# Altium integrated library N-Channel FET.IntLib: 448 symbols (part 2 of 8)
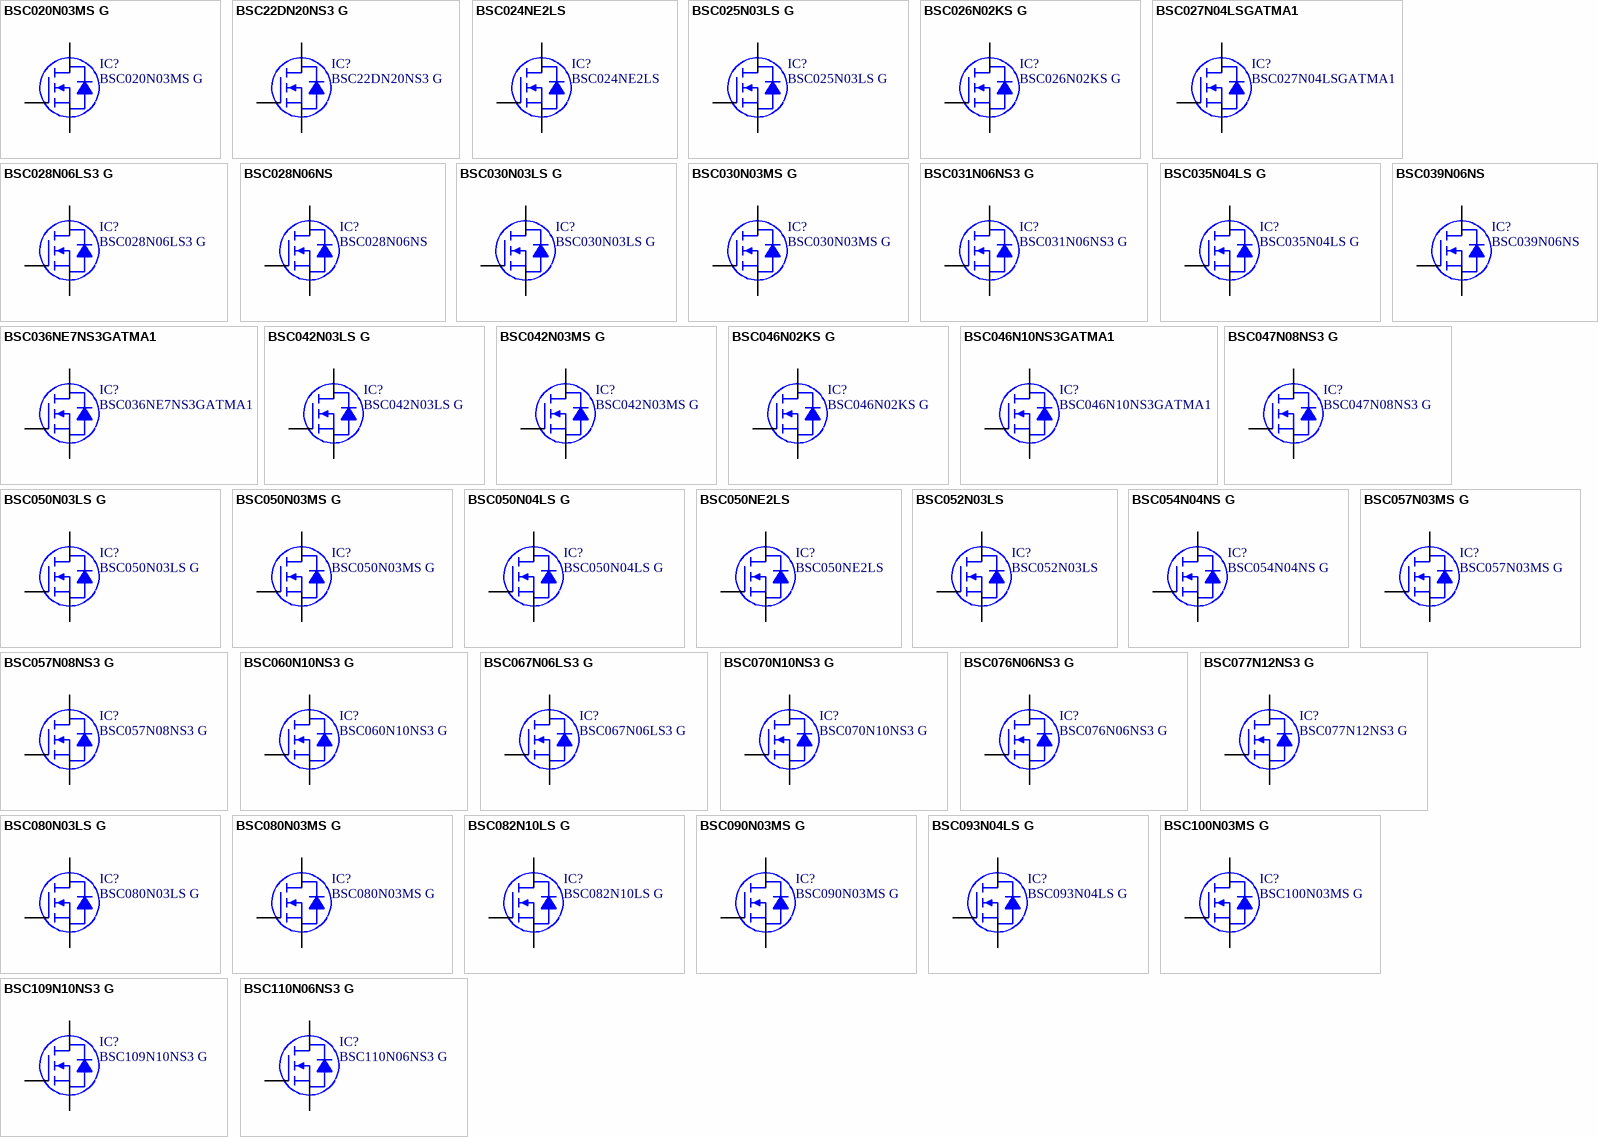
[diagram p12: symbols BSC020N03MS G to BSC110N06NS3 G]

## BSC042N03LS G
designator IC?
MOSFET N-CH 30V 93A TDSON-8; Manufacturer: Infineon Technologies; Rds On (Max) at Id, Vgs: 4.2 mOhm @ 30A, 10V; Vgs(th) (Max) at Id: 2.2V @ 250uA; Gate Charge (Qg): 42nC @ 10V; Input Capacitance (Ciss) at Vds: 3500pF @ 15V; Power - Max: 57W; Current Continuous Drain: 20A (Ta), 93A (Tc); Part Number: BSC042N03LS G; PartId: 8004; Supplier 1: Digi-Key; Supplier Part Number 1: BSC042N03LSGINTR-ND; ComponentLink1Description: Datasheet; ComponentLink1URL: http://www.infineon.com/dgdl?fileId=db3a304319c6f18c0119e17c202f5ff7; ComponentLink2Description: Digi-Key Listing; ComponentLink2URL: http://www.digikey.com/product-detail/en/BSC042N03LS%20G/BSC042N03LSGINTR-ND/1785566; Price: 0.2835; Type: MOSFET N-Channel, Metal Oxide; Device Package: 8-PowerTDFN; Drain to Source Voltage (Vdss): 30V; Features: Logic Level Gate
footprint INFINEON PG-TDSON-8 6.15x5.32mm
pins: 1 S, 2 S, 3 S, 4 G, 5 D, 6 D, 7 D, 8 D

## BSC042N03MS G
designator IC?
MOSFET N-CH 30V 93A TDSON-8; Manufacturer: Infineon Technologies; Rds On (Max) at Id, Vgs: 4.2 mOhm @ 30A, 10V; Vgs(th) (Max) at Id: 2V @ 250uA; Gate Charge (Qg): 55nC @ 10V; Input Capacitance (Ciss) at Vds: 4300pF @ 15V; Power - Max: 57W; Current Continuous Drain: 17A (Ta), 93A (Tc); Part Number: BSC042N03MS G; PartId: 8007; Supplier 1: Digi-Key; Supplier Part Number 1: BSC042N03MSGINTR-ND; ComponentLink1Description: Datasheet; ComponentLink1URL: http://www.infineon.com/cms/en/services/download.html?filename=%2Fdgdl%2FBSC042N03MS_rev1.11.pdf%3FfolderId%3Ddb3a304313d846880113d91d60c500c4%26fileId%3Ddb3a304313d846880113de62ba090366&location=.en; ComponentLink2Description: Digi-Key Listing; ComponentLink2URL: http://www.digikey.com/product-detail/en/BSC042N03MS%20G/BSC042N03MSGINTR-ND/1785567; Price: 0.2835; Type: MOSFET N-Channel, Metal Oxide; Device Package: 8-PowerTDFN; Drain to Source Voltage (Vdss): 30V; Features: Standard
footprint INFINEON PG-TDSON-8 6.15x5.32mm
pins: 1 S, 2 S, 3 S, 4 G, 5 D, 6 D, 7 D, 8 D

## BSC046N02KS G
designator IC?
MOSFET N-CH 20V 80A TDSON-8; Manufacturer: Infineon Technologies; Rds On (Max) at Id, Vgs: 4.6 mOhm @ 50A, 4.5V; Vgs(th) (Max) at Id: 1.2V @ 110uA; Gate Charge (Qg): 27.6nC @ 4.5V; Input Capacitance (Ciss) at Vds: 4100pF @ 10V; Power - Max: 48W; Current Continuous Drain: 19A (Ta), 80A (Tc); Part Number: BSC046N02KS G; PartId: 8016; Supplier 1: Digi-Key; Supplier Part Number 1: BSC046N02KS GTR-ND; ComponentLink1Description: Datasheet; ComponentLink1URL: http://www.infineon.com/dgdl/BSC046N02KS+G+Rev1.05.pdf?folderId=db3a3043163797a6011637c252b10018&fileId=db3a3043163797a6011637c34414001c; ComponentLink2Description: Digi-Key Listing; ComponentLink2URL: http://www.digikey.com/product-detail/en/BSC046N02KS%20G/BSC046N02KS%20GTR-ND/2080624; Price: 0.4464; Type: MOSFET N-Channel, Metal Oxide; Device Package: 8-PowerTDFN; Drain to Source Voltage (Vdss): 20V; Features: Logic Level Gate, 2.5V Drive
footprint INFINEON PG-TDSON-8 6.15x5.32mm
pins: 1 S, 2 S, 3 S, 4 G, 5 D, 6 D, 7 D, 8 D

## BSC046N10NS3GATMA1
designator IC?
MOSFET N-CH 100V 100A TDSON-8; Manufacturer: Infineon Technologies; Rds On (Max) at Id, Vgs: 4.6 mOhm @ 50A, 10V; Vgs(th) (Max) at Id: 3.5V @ 120uA; Gate Charge (Qg): 63nC @ 10V; Input Capacitance (Ciss) at Vds: 4500pF @ 50V; Power - Max: 156W; Current Continuous Drain: 17A (Ta), 100A (Tc); Part Number: BSC046N10NS3GATMA1; PartId: 15707; Supplier 1: Digi-Key; Supplier Part Number 1: BSC046N10NS3GATMA1TR-ND; ComponentLink1Description: Datasheet; ComponentLink1URL: http://www.infineon.com/dgdl/BSC046N10NS3+Rev2.0.pdf?folderId=db3a304313b8b5a60113cee8763b02d7&fileId=db3a304332fc1ee7013316f966a4713c; ComponentLink2Description: Digi-Key Listing; ComponentLink2URL: https://www.digikey.com/product-detail/en/infineon-technologies/BSC046N10NS3GATMA1/BSC046N10NS3GATMA1TR-ND/4318677; Price: 1.4836; Type: MOSFET N-Channel, Metal Oxide; Device Package: 8-PowerTDFN; Drain to Source Voltage (Vdss): 100V; Features: Standard
footprint INFINEON PG-TDSON-8 6.15x5.32mm
pins: 1 S, 2 S, 3 S, 4 G, 5 D, 6 D, 7 D, 8 D

## BSC047N08NS3 G
designator IC?
MOSFET N-CH 80V 100A TDSON-8; Manufacturer: Infineon Technologies; Rds On (Max) at Id, Vgs: 4.7 mOhm @ 50A, 10V; Vgs(th) (Max) at Id: 3.5V @ 90uA; Gate Charge (Qg): 69nC @ 10V; Input Capacitance (Ciss) at Vds: 4800pF @ 40V; Power - Max: 125W; Current Continuous Drain: 18A (Ta), 100A (Tc); Part Number: BSC047N08NS3 G; PartId: 8011; Supplier 1: Digi-Key; Supplier Part Number 1: BSC047N08NS3 GTR-ND; ComponentLink1Description: Datasheet; ComponentLink1URL: http://www.infineon.com/dgdl/BSC047N08NS3G_rev2.4.pdf?folderId=db3a304313b8b5a60113cee7c66a02d6&fileId=db3a30431add1d95011ae7e8dacf5611; ComponentLink2Description: Digi-Key Listing; ComponentLink2URL: http://www.digikey.com/product-detail/en/BSC047N08NS3%20G/BSC047N08NS3%20GTR-ND/2080625; Price: 1.006; Type: MOSFET N-Channel, Metal Oxide; Device Package: 8-PowerTDFN; Drain to Source Voltage (Vdss): 80V; Features: Standard
footprint INFINEON PG-TDSON-8 6.15x5.32mm
pins: 1 S, 2 S, 3 S, 4 G, 5 D, 6 D, 7 D, 8 D

## BSC050N03LS G
designator IC?
MOSFET N-CH 30V 80A TDSON-8; Manufacturer: Infineon Technologies; Rds On (Max) at Id, Vgs: 5 mOhm @ 30A, 10V; Vgs(th) (Max) at Id: 2.2V @ 250uA; Gate Charge (Qg): 35nC @ 10V; Input Capacitance (Ciss) at Vds: 2800pF @ 15V; Power - Max: 50W; Current Continuous Drain: 18A (Ta), 80A (Tc); Part Number: BSC050N03LS G; PartId: 8022; Supplier 1: Digi-Key; Supplier Part Number 1: BSC050N03LSGINTR-ND; ComponentLink1Description: Datasheet; ComponentLink1URL: http://www.infineon.com/cms/en/services/download.html?filename=%2Fdgdl%2FBSC050N03LS_rev1.2.pdf%3FfolderId%3Ddb3a304412b407950112b408e8c90004%26fileId%3Ddb3a304412b407950112b4276b953c2b&location=.en.; ComponentLink2Description: Digi-Key Listing; ComponentLink2URL: http://www.digikey.com/product-detail/en/BSC050N03LS%20G/BSC050N03LSGINTR-ND/1785568; Price: 0.2497; Type: MOSFET N-Channel, Metal Oxide; Device Package: 8-PowerTDFN; Drain to Source Voltage (Vdss): 30V; Features: Logic Level Gate
footprint INFINEON PG-TDSON-8 6.15x5.32mm
pins: 1 S, 2 S, 3 S, 4 G, 5 D, 6 D, 7 D, 8 D

## BSC050N03MS G
designator IC?
MOSFET N-CH 30V 80A TDSON-8; Manufacturer: Infineon Technologies; Rds On (Max) at Id, Vgs: 5 mOhm @ 30A, 10V; Vgs(th) (Max) at Id: 2V @ 250uA; Gate Charge (Qg): 46nC @ 10V; Input Capacitance (Ciss) at Vds: 3600pF @ 15V; Power - Max: 50W; Current Continuous Drain: 16A (Ta), 80A (Tc); Part Number: BSC050N03MS G; PartId: 7983; Supplier 1: Digi-Key; Supplier Part Number 1: BSC050N03MSGINTR-ND; ComponentLink1Description: Datasheet; ComponentLink1URL: http://www.infineon.com/cms/en/services/download.html?filename=%2Fdgdl%2FBSC050N03MS_rev1.11.pdf%3FfolderId%3Ddb3a304313d846880113d91d60c500c4%26fileId%3Ddb3a304313d846880113de6677ab0373&location=.en; ComponentLink2Description: Digi-Key Listing; ComponentLink2URL: http://www.digikey.com/product-detail/en/BSC050N03MS%20G/BSC050N03MSGINTR-ND/1785569; Price: 0.2497; Type: MOSFET N-Channel, Metal Oxide; Device Package: 8-PowerTDFN; Drain to Source Voltage (Vdss): 30V; Features: Standard
footprint INFINEON PG-TDSON-8 6.15x5.32mm
pins: 1 S, 2 S, 3 S, 4 G, 5 D, 6 D, 7 D, 8 D

## BSC050N04LS G
designator IC?
MOSFET N-CH 40V 85A TDSON-8; Manufacturer: Infineon Technologies; Rds On (Max) at Id, Vgs: 5 mOhm @ 50A, 10V; Vgs(th) (Max) at Id: 2V @ 27uA; Gate Charge (Qg): 47nC @ 10V; Input Capacitance (Ciss) at Vds: 3700pF @ 20V; Power - Max: 57W; Current Continuous Drain: 18A (Ta), 85A (Tc); Part Number: BSC050N04LS G; PartId: 8033; Supplier 1: Digi-Key; Supplier Part Number 1: BSC050N04LS GTR-ND; ComponentLink1Description: Datasheet; ComponentLink1URL: http://www.infineon.com/dgdl/BSC050N04LSG_rev1.02.pdf?folderId=db3a3043156fd5730115c7d50620107c&fileId=db3a30431689f4420116c4440ee3081c; ComponentLink2Description: Digi-Key Listing; ComponentLink2URL: http://www.digikey.com/product-detail/en/BSC050N04LS%20G/BSC050N04LS%20GTR-ND/2080626; Price: 0.27; Type: MOSFET N-Channel, Metal Oxide; Device Package: 8-PowerTDFN; Drain to Source Voltage (Vdss): 40V; Features: Logic Level Gate
footprint INFINEON PG-TDSON-8 6.15x5.32mm
pins: 1 S, 2 S, 3 S, 4 G, 5 D, 6 D, 7 D, 8 D

## BSC050NE2LS
designator IC?
MOSFET N-CH 25V 39A TDSON-8; Manufacturer: Infineon Technologies; Rds On (Max) at Id, Vgs: 5 mOhm @ 30A, 10V; Vgs(th) (Max) at Id: 2V @ 250uA; Gate Charge (Qg): 10.4nC @ 10V; Input Capacitance (Ciss) at Vds: 760pF @ 12V; Power - Max: 28W; Current Continuous Drain: 39A (Ta), 58A (Tc); Part Number: BSC050NE2LS; PartId: 7978; Supplier 1: Digi-Key; Supplier Part Number 1: BSC050NE2LSTR-ND; ComponentLink1Description: Datasheet; ComponentLink1URL: http://www.infineon.com/dgdl/BSC050NE2LS_Rev+2.1_.pdf?folderId=db3a304326dfb1300126fb3bec803f1a&fileId=db3a304326dfb1300126fb5ce0cb3f2d; ComponentLink2Description: Digi-Key Listing; ComponentLink2URL: http://www.digikey.com/product-detail/en/BSC050NE2LS/BSC050NE2LSTR-ND/2783446; Price: 0.243; Type: MOSFET N-Channel, Metal Oxide; Device Package: 8-PowerTDFN; Drain to Source Voltage (Vdss): 25V; Features: Standard
footprint INFINEON PG-TDSON-8 6.15x5.32mm
pins: 1 S, 2 S, 3 S, 4 G, 5 D, 6 D, 7 D, 8 D

## BSC052N03LS
designator IC?
MOSFET N-CH 30V 17A TDSON-8; Manufacturer: Infineon Technologies; Rds On (Max) at Id, Vgs: 5.2 mOhm @ 30A, 10V; Vgs(th) (Max) at Id: 2V @ 250uA; Gate Charge (Qg): 12nC @ 10V; Input Capacitance (Ciss) at Vds: 770pF @ 15V; Power - Max: 28W; Current Continuous Drain: 17A (Ta), 57A (Tc); Part Number: BSC052N03LS; PartId: 8020; Supplier 1: Digi-Key; Supplier Part Number 1: BSC052N03LSTR-ND; ComponentLink1Description: Datasheet; ComponentLink1URL: http://www.infineon.com/dgdl/BSC052N03LS_Rev+2.1.pdf?folderId=db3a304313b8b5a60113cee8763b02d7&fileId=db3a30432c64a60d012cbc1084350363; ComponentLink2Description: Digi-Key Listing; ComponentLink2URL: http://www.digikey.com/product-detail/en/BSC052N03LS/BSC052N03LSTR-ND/2783447; Price: 0.2565; Type: MOSFET N-Channel, Metal Oxide; Device Package: 8-PowerTDFN; Drain to Source Voltage (Vdss): 30V; Features: Standard
footprint INFINEON PG-TDSON-8 6.15x5.32mm
pins: 1 S, 2 S, 3 S, 4 G, 5 D, 6 D, 7 D, 8 D

## BSC054N04NS G
designator IC?
MOSFET N-CH 40V 81A TDSON-8; Manufacturer: Infineon Technologies; Rds On (Max) at Id, Vgs: 5.4 mOhm @ 50A, 10V; Vgs(th) (Max) at Id: 4V @ 27uA; Gate Charge (Qg): 34nC @ 10V; Input Capacitance (Ciss) at Vds: 2800pF @ 20V; Power - Max: 57W; Current Continuous Drain: 17A (Ta), 81A (Tc); Part Number: BSC054N04NS G; PartId: 8025; Supplier 1: Digi-Key; Supplier Part Number 1: BSC054N04NS GTR-ND; ComponentLink1Description: Datasheet; ComponentLink1URL: http://www.infineon.com/dgdl/BSC054N04NSG_rev1.04.pdf?folderId=db3a3043156fd5730115c7d50620107c&fileId=db3a30431689f4420116c46167a0083c; ComponentLink2Description: Digi-Key Listing; ComponentLink2URL: http://www.digikey.com/product-detail/en/BSC054N04NS%20G/BSC054N04NS%20GTR-ND/2080627; Price: 0.216; Type: MOSFET N-Channel, Metal Oxide; Device Package: 8-PowerTDFN; Drain to Source Voltage (Vdss): 40V; Features: Standard
footprint INFINEON PG-TDSON-8 6.15x5.32mm
pins: 1 S, 2 S, 3 S, 4 G, 5 D, 6 D, 7 D, 8 D

## BSC057N03MS G
designator IC?
MOSFET N-CH 30V 71A TDSON-8; Manufacturer: Infineon Technologies; Rds On (Max) at Id, Vgs: 5.7 mOhm @ 30A, 10V; Vgs(th) (Max) at Id: 2V @ 250uA; Gate Charge (Qg): 40nC @ 10V; Input Capacitance (Ciss) at Vds: 3100pF @ 15V; Power - Max: 45W; Current Continuous Drain: 15A (Ta), 71A (Tc); Part Number: BSC057N03MS G; PartId: 7990; Supplier 1: Digi-Key; Supplier Part Number 1: BSC057N03MSGINTR-ND; ComponentLink1Description: Datasheet; ComponentLink1URL: http://www.infineon.com/cms/en/services/download.html?filename=%2Fdgdl%2FBSC057N03MS_rev1.11.pdf%3FfolderId%3Ddb3a304313d846880113d91d60c500c4%26fileId%3Ddb3a304313d846880113de68c6ce037a&location=.en; ComponentLink2Description: Digi-Key Listing; ComponentLink2URL: http://www.digikey.com/product-detail/en/BSC057N03MS%20G/BSC057N03MSGINTR-ND/1785571; Price: 0.243; Type: MOSFET N-Channel, Metal Oxide; Device Package: 8-PowerTDFN; Drain to Source Voltage (Vdss): 30V; Features: Standard
footprint INFINEON PG-TDSON-8 6.15x5.32mm
pins: 1 S, 2 S, 3 S, 4 G, 5 D, 6 D, 7 D, 8 D

## BSC057N08NS3 G
designator IC?
MOSFET N-CH 80V 100A TDSON-8; Manufacturer: Infineon Technologies; Rds On (Max) at Id, Vgs: 5.7 mOhm @ 50A, 10V; Vgs(th) (Max) at Id: 3.5V @ 73uA; Gate Charge (Qg): 56nC @ 10V; Input Capacitance (Ciss) at Vds: 3900pF @ 40V; Power - Max: 114W; Current Continuous Drain: 16A (Ta), 100A (Tc); Part Number: BSC057N08NS3 G; PartId: 8002; Supplier 1: Digi-Key; Supplier Part Number 1: BSC057N08NS3 GTR-ND; ComponentLink1Description: Datasheet; ComponentLink1URL: http://www.infineon.com/dgdl/BSC057N08NS3G_rev2.4.pdf?folderId=db3a304313b8b5a60113cee8763b02d7&fileId=db3a30431add1d95011ae803c9345616; ComponentLink2Description: Digi-Key Listing; ComponentLink2URL: http://www.digikey.com/product-detail/en/BSC057N08NS3%20G/BSC057N08NS3%20GTR-ND/2080628; Price: 0.532; Type: MOSFET N-Channel, Metal Oxide; Device Package: 8-PowerTDFN; Drain to Source Voltage (Vdss): 80V; Features: Standard
footprint INFINEON PG-TDSON-8 6.15x5.32mm
pins: 1 S, 2 S, 3 S, 4 G, 5 D, 6 D, 7 D, 8 D

## BSC060N10NS3 G
designator IC?
MOSFET N-CH 100V 90A TDSON-8; Manufacturer: Infineon Technologies; Rds On (Max) at Id, Vgs: 6 mOhm @ 50A, 10V; Vgs(th) (Max) at Id: 3.5V @ 90uA; Gate Charge (Qg): 68nC @ 10V; Input Capacitance (Ciss) at Vds: 4900pF @ 50V; Power - Max: 125W; Current Continuous Drain: 14.9A (Ta), 90A (Tc); Part Number: BSC060N10NS3 G; PartId: 7996; Supplier 1: Digi-Key; Supplier Part Number 1: BSC060N10NS3 GTR-ND; ComponentLink1Description: Datasheet; ComponentLink1URL: http://www.infineon.com/dgdl/BSC060N10NS3+Rev2.4.pdf?folderId=db3a304313b8b5a60113cee8763b02d7&fileId=db3a30431ce5fb52011d1aab7f90133a; ComponentLink2Description: Digi-Key Listing; ComponentLink2URL: http://www.digikey.com/product-detail/en/BSC060N10NS3%20G/BSC060N10NS3%20GTR-ND/2080630; Price: 0.6861; Type: MOSFET N-Channel, Metal Oxide; Device Package: 8-PowerTDFN; Drain to Source Voltage (Vdss): 100V; Features: Standard
footprint INFINEON PG-TDSON-8 6.15x5.32mm
pins: 1 S, 2 S, 3 S, 4 G, 5 D, 6 D, 7 D, 8 D

## BSC067N06LS3 G
designator IC?
MOSFET N-CH 60V 50A TDSON-8; Manufacturer: Infineon Technologies; Rds On (Max) at Id, Vgs: 6.7 mOhm @ 50A, 10V; Vgs(th) (Max) at Id: 2.2V @ 35uA; Gate Charge (Qg): 67nC @ 10V; Input Capacitance (Ciss) at Vds: 5100pF @ 30V; Power - Max: 69W; Current Continuous Drain: 15A (Ta), 50A (Tc); Part Number: BSC067N06LS3 G; PartId: 7997; Supplier 1: Digi-Key; Supplier Part Number 1: BSC067N06LS3 GINTR-ND; ComponentLink1Description: Datasheet; ComponentLink1URL: http://www.infineon.com/dgdl/BSC067N06LS3_rev2.0.pdf?folderId=db3a30431ddc9372011ebafa04517f8b&fileId=db3a30431ddc9372011ebb01e1b37fb6; ComponentLink2Description: Digi-Key Listing; ComponentLink2URL: http://www.digikey.com/product-detail/en/BSC067N06LS3%20G/BSC067N06LS3%20GINTR-ND/2080631; Price: 0.3229; Type: MOSFET N-Channel, Metal Oxide; Device Package: 8-PowerTDFN; Drain to Source Voltage (Vdss): 60V; Features: Logic Level Gate
footprint INFINEON PG-TDSON-8 6.15x5.32mm
pins: 1 S, 2 S, 3 S, 4 G, 5 D, 6 D, 7 D, 8 D

## BSC070N10NS3 G
designator IC?
MOSFET N-CH 100V 90A TDSON-8; Manufacturer: Infineon Technologies; Rds On (Max) at Id, Vgs: 7 mOhm @ 50A, 10V; Vgs(th) (Max) at Id: 3.5V @ 75uA; Gate Charge (Qg): 55nC @ 10V; Input Capacitance (Ciss) at Vds: 4000pF @ 50V; Power - Max: 114W; Current Continuous Drain: 90A (Tc); Part Number: BSC070N10NS3 G; PartId: 8001; Supplier 1: Digi-Key; Supplier Part Number 1: BSC070N10NS3 GTR-ND; ComponentLink1Description: Datasheet; ComponentLink1URL: http://www.infineon.com/dgdl/BSC070N10NS3+Rev2+1.pdf?folderId=db3a304313b8b5a60113cee8763b02d7&fileId=db3a304327b89750012824712c6c6f2f; ComponentLink2Description: Digi-Key Listing; ComponentLink2URL: http://www.digikey.com/product-detail/en/BSC070N10NS3%20G/BSC070N10NS3%20GTR-ND/2783448; Price: 0.5386; Type: MOSFET N-Channel, Metal Oxide; Device Package: 8-PowerTDFN; Drain to Source Voltage (Vdss): 100V; Features: Standard
footprint INFINEON PG-TDSON-8 6.15x5.32mm
pins: 1 S, 2 S, 3 S, 4 G, 5 D, 6 D, 7 D, 8 D

## BSC076N06NS3 G
designator IC?
MOSFET N-CH 60V 50A TDSON-8; Manufacturer: Infineon Technologies; Rds On (Max) at Id, Vgs: 7.6 mOhm @ 50A, 10V; Vgs(th) (Max) at Id: 4V @ 35uA; Gate Charge (Qg): 50nC @ 10V; Input Capacitance (Ciss) at Vds: 4000pF @ 30V; Power - Max: 69W; Current Continuous Drain: 50A (Tc); Part Number: BSC076N06NS3 G; PartId: 7998; Supplier 1: Digi-Key; Supplier Part Number 1: BSC076N06NS3 GTR-ND; ComponentLink1Description: Datasheet; ComponentLink1URL: http://www.infineon.com/dgdl/BSC076N06NS3_Rev2.1.pdf?folderId=db3a30431ddc9372011ebafa04517f8b&fileId=db3a30431ddc9372011ebb04d68c7fc7; ComponentLink2Description: Digi-Key Listing; ComponentLink2URL: http://www.digikey.com/product-detail/en/BSC076N06NS3%20G/BSC076N06NS3%20GTR-ND/2080633; Price: 0.2903; Type: MOSFET N-Channel, Metal Oxide; Device Package: 8-PowerTDFN; Drain to Source Voltage (Vdss): 60V; Features: Standard
footprint INFINEON PG-TDSON-8 6.15x5.32mm
pins: 1 S, 2 S, 3 S, 4 G, 5 D, 6 D, 7 D, 8 D

## BSC077N12NS3 G
designator IC?
MOSFET N-CH 120V 98A 8TDSON; Manufacturer: Infineon Technologies; Rds On (Max) at Id, Vgs: 7.7 mOhm @ 50A, 10V; Vgs(th) (Max) at Id: 4V @ 110uA; Gate Charge (Qg): 88nC @ 10V; Input Capacitance (Ciss) at Vds: 5700pF @ 60V; Power - Max: 139W; Current Continuous Drain: 13.4A (Ta), 98A (Tc); Part Number: BSC077N12NS3 G; PartId: 7999; Supplier 1: Digi-Key; Supplier Part Number 1: BSC077N12NS3 GTR-ND; ComponentLink1Description: Datasheet; ComponentLink1URL: http://www.infineon.com/dgdl/BSC077N12NS3++Rev2.5.pdf?folderId=db3a304313b8b5a60113cee8763b02d7&fileId=db3a30432239cccd0122a7b3afe37d39; ComponentLink2Description: Digi-Key Listing; ComponentLink2URL: http://www.digikey.com/product-detail/en/BSC077N12NS3%20G/BSC077N12NS3%20GTR-ND/2337847; Price: 1.044; Type: MOSFET N-Channel, Metal Oxide; Device Package: 8-PowerTDFN; Drain to Source Voltage (Vdss): 120V; Features: Standard
footprint INFINEON PG-TDSON-8 6.15x5.32mm
pins: 1 S, 2 S, 3 S, 4 G, 5 D, 6 D, 7 D, 8 D

## BSC080N03LS G
designator IC?
MOSFET N-CH 30V 53A TDSON-8; Manufacturer: Infineon Technologies; Rds On (Max) at Id, Vgs: 8 mOhm @ 30A, 10V; Vgs(th) (Max) at Id: 2.2V @ 250uA; Gate Charge (Qg): 21nC @ 10V; Input Capacitance (Ciss) at Vds: 1700pF @ 15V; Power - Max: 35W; Current Continuous Drain: 14A (Ta), 53A (Tc); Part Number: BSC080N03LS G; PartId: 8008; Supplier 1: Digi-Key; Supplier Part Number 1: BSC080N03LSGINTR-ND; ComponentLink1Description: Datasheet; ComponentLink1URL: http://www.infineon.com/cms/en/services/download.html?filename=%2Fdgdl%2FBSC080N03LS_rev1.2.pdf%3FfolderId%3Ddb3a304412b407950112b408e8c90004%26fileId%3Ddb3a304412b407950112b427c2683cbe&location=.en.; ComponentLink2Description: Digi-Key Listing; ComponentLink2URL: http://www.digikey.com/product-detail/en/BSC080N03LS%20G/BSC080N03LSGINTR-ND/1785572; Price: 0.2102; Type: MOSFET N-Channel, Metal Oxide; Device Package: 8-PowerTDFN; Drain to Source Voltage (Vdss): 30V; Features: Logic Level Gate
footprint INFINEON PG-TDSON-8 6.15x5.32mm
pins: 1 S, 2 S, 3 S, 4 G, 5 D, 6 D, 7 D, 8 D

## BSC080N03MS G
designator IC?
MOSFET N-CH 30V 53A TDSON-8; Manufacturer: Infineon Technologies; Rds On (Max) at Id, Vgs: 8 mOhm @ 30A, 10V; Vgs(th) (Max) at Id: 2V @ 250uA; Gate Charge (Qg): 27nC @ 10V; Input Capacitance (Ciss) at Vds: 2100pF @ 15V; Power - Max: 35W; Current Continuous Drain: 13A (Ta), 53A (Tc); Part Number: BSC080N03MS G; PartId: 7991; Supplier 1: Digi-Key; Supplier Part Number 1: BSC080N03MSGINTR-ND; ComponentLink1Description: Datasheet; ComponentLink1URL: http://www.infineon.com/cms/en/services/download.html?filename=%2Fdgdl%2FBSC080N03MS_rev1.11.pdf%3FfolderId%3Ddb3a304313d846880113d91d60c500c4%26fileId%3Ddb3a304313d846880113de6cfd390383&location=.en; ComponentLink2Description: Digi-Key Listing; ComponentLink2URL: http://www.digikey.com/product-detail/en/BSC080N03MS%20G/BSC080N03MSGINTR-ND/1785573; Price: 0.2102; Type: MOSFET N-Channel, Metal Oxide; Device Package: 8-PowerTDFN; Drain to Source Voltage (Vdss): 30V; Features: Standard
footprint INFINEON PG-TDSON-8 6.15x5.32mm
pins: 1 S, 2 S, 3 S, 4 G, 5 D, 6 D, 7 D, 8 D

## BSC082N10LS G
designator IC?
MOSFET N-CH 100V 100A TDSON-8; Manufacturer: Infineon Technologies; Rds On (Max) at Id, Vgs: 8.2 mOhm @ 100A, 10V; Vgs(th) (Max) at Id: 2.4V @ 110uA; Gate Charge (Qg): 104nC @ 10V; Input Capacitance (Ciss) at Vds: 7400pF @ 50V; Power - Max: 156W; Current Continuous Drain: 13.8A (Ta), 100A (Tc); Part Number: BSC082N10LS G; PartId: 8037; Supplier 1: Digi-Key; Supplier Part Number 1: BSC082N10LS GTR-ND; ComponentLink1Description: Datasheet; ComponentLink1URL: http://www.infineon.com/dgdl/BSC082N10LS+Rev1.05.pdf?folderId=db3a3043156fd5730115c7d50620107c&fileId=db3a3043163797a6011647faad240719; ComponentLink2Description: Digi-Key Listing; ComponentLink2URL: http://www.digikey.com/product-detail/en/BSC082N10LS%20G/BSC082N10LS%20GTR-ND/2080636; Price: 0.8778; Type: MOSFET N-Channel, Metal Oxide; Device Package: 8-PowerTDFN; Drain to Source Voltage (Vdss): 100V; Features: Logic Level Gate
footprint INFINEON PG-TDSON-8 6.15x5.32mm
pins: 1 S, 2 S, 3 S, 4 G, 5 D, 6 D, 7 D, 8 D

## BSC090N03MS G
designator IC?
MOSFET N-CH 30V 48A TDSON-8; Manufacturer: Infineon Technologies; Rds On (Max) at Id, Vgs: 9 mOhm @ 30A, 10V; Vgs(th) (Max) at Id: 2V @ 250uA; Gate Charge (Qg): 24nC @ 10V; Input Capacitance (Ciss) at Vds: 1900pF @ 15V; Power - Max: 32W; Current Continuous Drain: 12A (Ta), 48A (Tc); Part Number: BSC090N03MS G; PartId: 8034; Supplier 1: Digi-Key; Supplier Part Number 1: BSC090N03MSGINTR-ND; ComponentLink1Description: Datasheet; ComponentLink1URL: http://www.infineon.com/cms/en/services/download.html?filename=%2Fdgdl%2FBSC090N03MS_rev%2B1.11.pdf%3FfolderId%3Ddb3a304313d846880113d91d60c500c4%26fileId%3Ddb3a304313d846880113de715bb50390&location=; ComponentLink2Description: Digi-Key Listing; ComponentLink2URL: http://www.digikey.com/product-detail/en/BSC090N03MS%20G/BSC090N03MSGINTR-ND/1785575; Price: 0.2102; Type: MOSFET N-Channel, Metal Oxide; Device Package: 8-PowerTDFN; Drain to Source Voltage (Vdss): 30V; Features: Standard
footprint INFINEON PG-TDSON-8 6.15x5.32mm
pins: 1 S, 2 S, 3 S, 4 G, 5 D, 6 D, 7 D, 8 D

## BSC093N04LS G
designator IC?
MOSFET N-CH 40V 49A TDSON-8; Manufacturer: Infineon Technologies; Rds On (Max) at Id, Vgs: 9.3 mOhm @ 40A, 10V; Vgs(th) (Max) at Id: 2V @ 14uA; Gate Charge (Qg): 24nC @ 10V; Input Capacitance (Ciss) at Vds: 1900pF @ 20V; Power - Max: 35W; Current Continuous Drain: 13A (Ta), 49A (Tc); Part Number: BSC093N04LS G; PartId: 7979; Supplier 1: Digi-Key; Supplier Part Number 1: BSC093N04LS GTR-ND; ComponentLink1Description: Datasheet; ComponentLink1URL: http://www.infineon.com/dgdl/BSC093N04LSG_rev1.04.pdf?folderId=db3a3043156fd5730115c7d50620107c&fileId=db3a30431689f4420116c44a1fa80822; ComponentLink2Description: Digi-Key Listing; ComponentLink2URL: http://www.digikey.com/product-detail/en/BSC093N04LS%20G/BSC093N04LS%20GTR-ND/2080637; Price: 0.2025; Type: MOSFET N-Channel, Metal Oxide; Device Package: 8-PowerTDFN; Drain to Source Voltage (Vdss): 40V; Features: Logic Level Gate
footprint INFINEON PG-TDSON-8 6.15x5.32mm
pins: 1 S, 2 S, 3 S, 4 G, 5 D, 6 D, 7 D, 8 D

## BSC100N03MS G
designator IC?
MOSFET N-CH 30V 44A TDSON-8; Manufacturer: Infineon Technologies; Rds On (Max) at Id, Vgs: 10 mOhm @ 30A, 10V; Vgs(th) (Max) at Id: 2V @ 250uA; Gate Charge (Qg): 23nC @ 10V; Input Capacitance (Ciss) at Vds: 1700pF @ 15V; Power - Max: 30W; Current Continuous Drain: 12A (Ta), 44A (Tc); Part Number: BSC100N03MS G; PartId: 8009; Supplier 1: Digi-Key; Supplier Part Number 1: BSC100N03MSGINTR-ND; ComponentLink1Description: Datasheet; ComponentLink1URL: http://www.infineon.com/cms/en/services/download.html?filename=%2Fdgdl%2FBSC100N03MS_rev1.11.pdf%3FfolderId%3Ddb3a304313d846880113d91d60c500c4%26fileId%3Ddb3a304313d846880113de73c33c039c&location=.en; ComponentLink2Description: Digi-Key Listing; ComponentLink2URL: http://www.digikey.com/product-detail/en/BSC100N03MS%20G/BSC100N03MSGINTR-ND/1785577; Price: 0.1885; Type: MOSFET N-Channel, Metal Oxide; Device Package: 8-PowerTDFN; Drain to Source Voltage (Vdss): 30V; Features: Standard
footprint INFINEON PG-TDSON-8 6.15x5.32mm
pins: 1 S, 2 S, 3 S, 4 G, 5 D, 6 D, 7 D, 8 D

## BSC109N10NS3 G
designator IC?
MOSFET N-CH 100V 63A 8TDSON; Manufacturer: Infineon Technologies; Rds On (Max) at Id, Vgs: 10.9 mOhm @ 46A, 10V; Vgs(th) (Max) at Id: 3.5V @ 45uA; Gate Charge (Qg): 35nC @ 10V; Input Capacitance (Ciss) at Vds: 2500pF @ 50V; Power - Max: 78W; Current Continuous Drain: 63A (Tc); Part Number: BSC109N10NS3 G; PartId: 8017; Supplier 1: Digi-Key; Supplier Part Number 1: BSC109N10NS3 GTR-ND; ComponentLink1Description: Datasheet; ComponentLink1URL: http://www.infineon.com/dgdl/BSC109N10NS3+Rev2.0.pdf?folderId=db3a304313b8b5a60113cee8763b02d7&fileId=db3a304327b897500128247bdae36f3f; ComponentLink2Description: Digi-Key Listing; ComponentLink2URL: http://www.digikey.com/product-detail/en/BSC109N10NS3%20G/BSC109N10NS3%20GTR-ND/2783227; Price: 0.4315; Type: MOSFET N-Channel, Metal Oxide; Device Package: 8-PowerTDFN; Drain to Source Voltage (Vdss): 100V; Features: Standard
footprint INFINEON PG-TDSON-8 6.15x5.32mm
pins: 1 S, 2 S, 3 S, 4 G, 5 D, 6 D, 7 D, 8 D

## BSC110N06NS3 G
designator IC?
MOSFET N-CH 60V 50A TDSON-8; Manufacturer: Infineon Technologies; Rds On (Max) at Id, Vgs: 11 mOhm @ 50A, 10V; Vgs(th) (Max) at Id: 4V @ 23uA; Gate Charge (Qg): 33nC @ 10V; Input Capacitance (Ciss) at Vds: 2700pF @ 30V; Power - Max: 50W; Current Continuous Drain: 50A (Tc); Part Number: BSC110N06NS3 G; PartId: 8021; Supplier 1: Digi-Key; Supplier Part Number 1: BSC110N06NS3 GTR-ND; ComponentLink1Description: Datasheet; ComponentLink1URL: http://www.infineon.com/dgdl/BSC110N06NS3_Rev2.3.pdf?folderId=db3a30431ddc9372011ebafa04517f8b&fileId=db3a30431ddc9372011ebb0be43c7fe6; ComponentLink2Description: Digi-Key Listing; ComponentLink2URL: http://www.digikey.com/product-detail/en/BSC110N06NS3%20G/BSC110N06NS3%20GTR-ND/2080641; Price: 0.2565; Type: MOSFET N-Channel, Metal Oxide; Device Package: 8-PowerTDFN; Drain to Source Voltage (Vdss): 60V; Features: Standard
footprint INFINEON PG-TDSON-8 6.15x5.32mm
pins: 1 S, 2 S, 3 S, 4 G, 5 D, 6 D, 7 D, 8 D

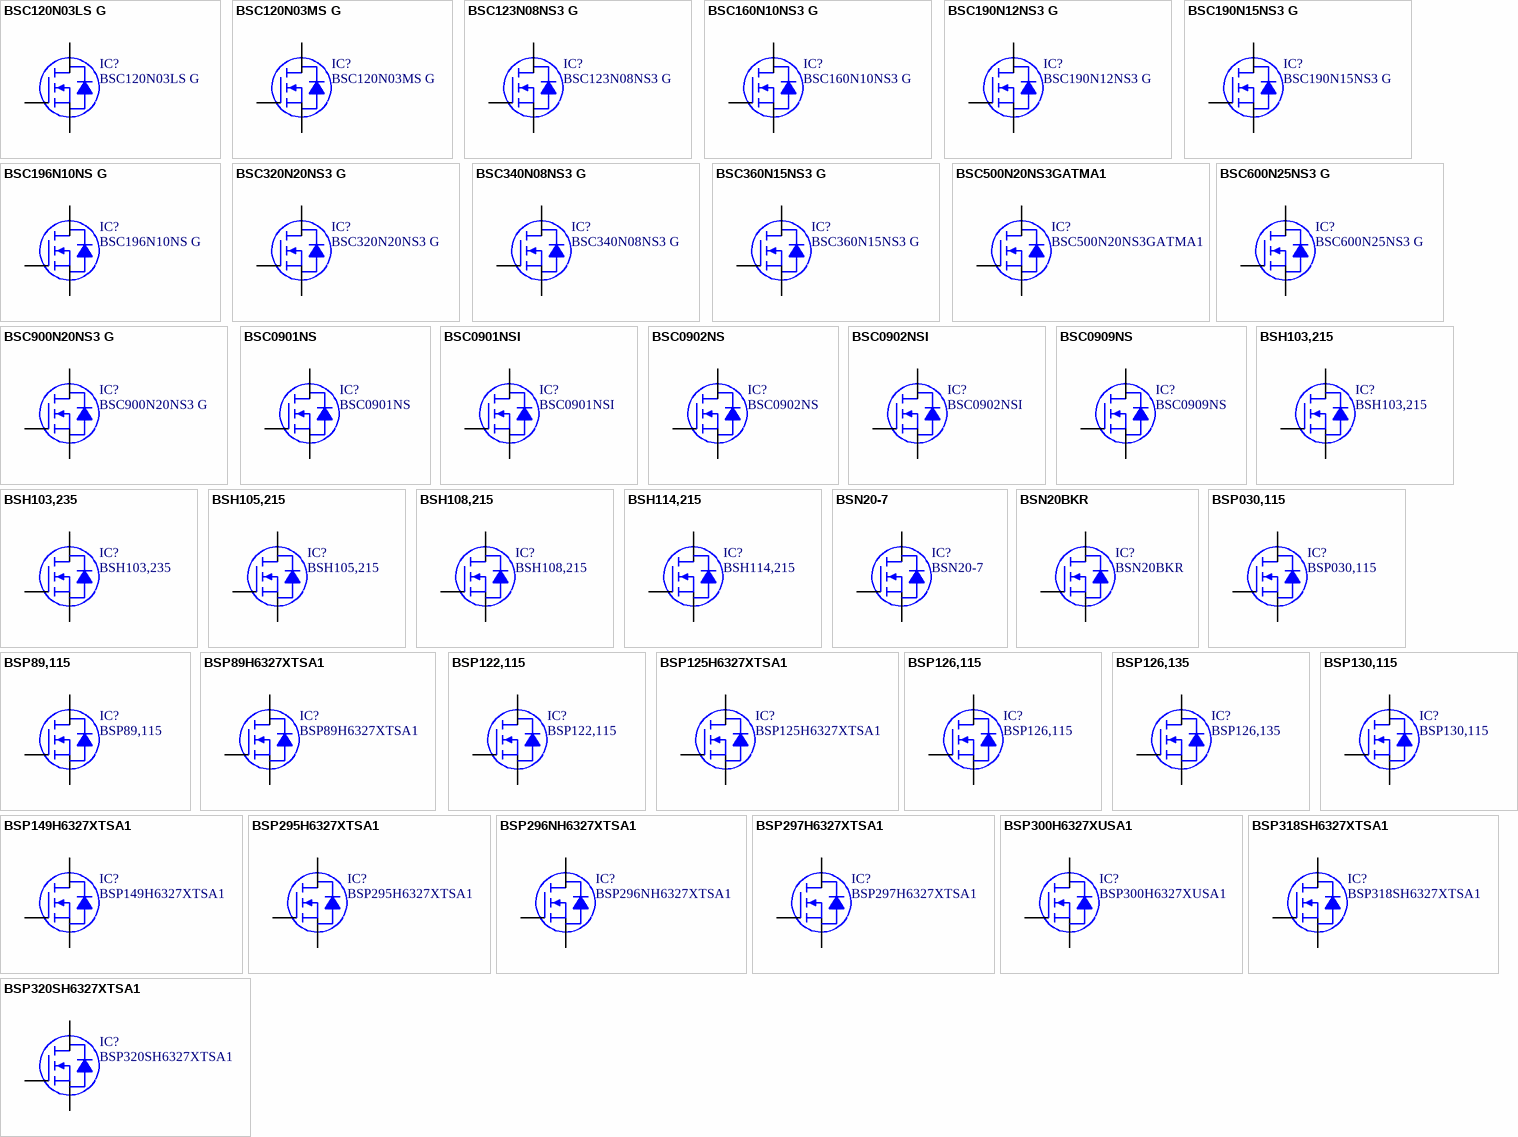
[diagram p2: symbols BSC120N03LS G to BSP320SH6327XTSA1]

## BSC120N03LS G
designator IC?
MOSFET N-CH 30V 39A TDSON-8; Manufacturer: Infineon Technologies; Rds On (Max) at Id, Vgs: 12 mOhm @ 30A, 10V; Vgs(th) (Max) at Id: 2.2V @ 250uA; Gate Charge (Qg): 15nC @ 10V; Input Capacitance (Ciss) at Vds: 1200pF @ 15V; Power - Max: 28W; Current Continuous Drain: 12A (Ta), 39A (Tc); Part Number: BSC120N03LS G; PartId: 8024; Supplier 1: Digi-Key; Supplier Part Number 1: BSC120N03LSGINTR-ND; ComponentLink1Description: Datasheet; ComponentLink1URL: http://www.infineon.com/dgdl/Infineon-BSC120N03LS-DS-v02_01-en.pdf?fileId=db3a3043183a955501189caf1e5e4010; ComponentLink2Description: Digi-Key Listing; ComponentLink2URL: http://www.digikey.com/product-detail/en/BSC120N03LS%20G/BSC120N03LSGINTR-ND/1785578; Price: 0.176; Type: MOSFET N-Channel, Metal Oxide; Device Package: 8-PowerTDFN; Drain to Source Voltage (Vdss): 30V; Features: Standard
footprint INFINEON PG-TDSON-8 6.15x5.32mm
pins: 1 S, 2 S, 3 S, 4 G, 5 D, 6 D, 7 D, 8 D

## BSC120N03MS G
designator IC?
MOSFET N-CH 30V 39A TDSON-8; Manufacturer: Infineon Technologies; Rds On (Max) at Id, Vgs: 12 mOhm @ 30A, 10V; Vgs(th) (Max) at Id: 2V @ 250uA; Gate Charge (Qg): 20nC @ 10V; Input Capacitance (Ciss) at Vds: 1500pF @ 15V; Power - Max: 28W; Current Continuous Drain: 11A (Ta), 39A (Tc); Part Number: BSC120N03MS G; PartId: 8023; Supplier 1: Digi-Key; Supplier Part Number 1: BSC120N03MSGINTR-ND; ComponentLink1Description: Datasheet; ComponentLink1URL: http://www.infineon.com/cms/en/services/download.html?filename=%2Fdgdl%2FBSC120N03MS_rev1.11.pdf%3FfolderId%3Ddb3a304313d846880113d91d60c500c4%26fileId%3Ddb3a304313d846880113de761b1d03a5&location=.en; ComponentLink2Description: Digi-Key Listing; ComponentLink2URL: http://www.digikey.com/product-detail/en/BSC120N03MS%20G/BSC120N03MSGINTR-ND/1785579; Price: 0.176; Type: MOSFET N-Channel, Metal Oxide; Device Package: 8-PowerTDFN; Drain to Source Voltage (Vdss): 30V; Features: Standard
footprint INFINEON PG-TDSON-8 6.15x5.32mm
pins: 1 S, 2 S, 3 S, 4 G, 5 D, 6 D, 7 D, 8 D

## BSC123N08NS3 G
designator IC?
MOSFET N-CH 80V 55A TDSON-8; Manufacturer: Infineon Technologies; Rds On (Max) at Id, Vgs: 12.3 mOhm @ 33A, 10V; Vgs(th) (Max) at Id: 3.5V @ 33uA; Gate Charge (Qg): 25nC @ 10V; Input Capacitance (Ciss) at Vds: 1870pF @ 40V; Power - Max: 66W; Current Continuous Drain: 11A (Ta), 55A (Tc); Part Number: BSC123N08NS3 G; PartId: 7976; Supplier 1: Digi-Key; Supplier Part Number 1: BSC123N08NS3 GTR-ND; ComponentLink1Description: Datasheet; ComponentLink1URL: http://www.infineon.com/dgdl/BSC123N08NS3G_rev2.5.pdf?folderId=db3a304313b8b5a60113cee8763b02d7&fileId=db3a30431add1d95011ae80eb8555625; ComponentLink2Description: Digi-Key Listing; ComponentLink2URL: http://www.digikey.com/product-detail/en/BSC123N08NS3%20G/BSC123N08NS3%20GTR-ND/2080643; Price: 0.2868; Type: MOSFET N-Channel, Metal Oxide; Device Package: 8-PowerTDFN; Drain to Source Voltage (Vdss): 80V; Features: Standard
footprint INFINEON PG-TDSON-8 6.15x5.32mm
pins: 1 S, 2 S, 3 S, 4 G, 5 D, 6 D, 7 D, 8 D

## BSC160N10NS3 G
designator IC?
MOSFET N-CH 100V 42A TDSON-8; Manufacturer: Infineon Technologies; Rds On (Max) at Id, Vgs: 16 mOhm @ 33A, 10V; Vgs(th) (Max) at Id: 3.5V @ 33uA; Gate Charge (Qg): 25nC @ 10V; Input Capacitance (Ciss) at Vds: 1700pF @ 50V; Power - Max: 60W; Current Continuous Drain: 8.8A (Ta), 42A (Tc); Part Number: BSC160N10NS3 G; PartId: 8043; Supplier 1: Digi-Key; Supplier Part Number 1: BSC160N10NS3 GINTR-ND; ComponentLink1Description: Datasheet; ComponentLink1URL: http://www.infineon.com/dgdl/BSC160N10NS3+Rev2.3.pdf?folderId=db3a304313b8b5a60113cee8763b02d7&fileId=db3a30432239cccd01226040189a7f47; ComponentLink2Description: Digi-Key Listing; ComponentLink2URL: http://www.digikey.com/product-detail/en/BSC160N10NS3%20G/BSC160N10NS3%20GINTR-ND/2337849; Price: 0.3364; Type: MOSFET N-Channel, Metal Oxide; Device Package: 8-PowerTDFN; Drain to Source Voltage (Vdss): 100V; Features: Standard
footprint INFINEON PG-TDSON-8 6.15x5.32mm
pins: 1 S, 2 S, 3 S, 4 G, 5 D, 6 D, 7 D, 8 D

## BSC190N12NS3 G
designator IC?
MOSFET N-CH 120V 44A TDSON-8; Manufacturer: Infineon Technologies; Rds On (Max) at Id, Vgs: 19 mOhm @ 39A, 10V; Vgs(th) (Max) at Id: 4V @ 42uA; Gate Charge (Qg): 34nC @ 10V; Input Capacitance (Ciss) at Vds: 2300pF @ 60V; Power - Max: 69W; Current Continuous Drain: 8.6A (Ta), 44A (Tc); Part Number: BSC190N12NS3 G; PartId: 8005; Supplier 1: Digi-Key; Supplier Part Number 1: BSC190N12NS3 GTR-ND; ComponentLink1Description: Datasheet; ComponentLink1URL: http://www.infineon.com/dgdl/BSC190N12NS3+Rev2.5.pdf?folderId=db3a304313b8b5a60113cee8763b02d7&fileId=db3a30432239cccd0122a7bb1e767d49; ComponentLink2Description: Digi-Key Listing; ComponentLink2URL: http://www.digikey.com/product-detail/en/BSC190N12NS3%20G/BSC190N12NS3%20GTR-ND/2337850; Price: 0.5685; Type: MOSFET N-Channel, Metal Oxide; Device Package: 8-PowerTDFN; Drain to Source Voltage (Vdss): 120V; Features: Standard
footprint INFINEON PG-TDSON-8 6.15x5.32mm
pins: 1 S, 2 S, 3 S, 4 G, 5 D, 6 D, 7 D, 8 D

## BSC190N15NS3 G
designator IC?
MOSFET N-CH 150V 50A TDSON-8; Manufacturer: Infineon Technologies; Rds On (Max) at Id, Vgs: 19 mOhm @ 50A, 10V; Vgs(th) (Max) at Id: 4V @ 90uA; Gate Charge (Qg): 31nC @ 10V; Input Capacitance (Ciss) at Vds: 2420pF @ 75V; Power - Max: 125W; Current Continuous Drain: 50A (Tc); Part Number: BSC190N15NS3 G; PartId: 8010; Supplier 1: Digi-Key; Supplier Part Number 1: BSC190N15NS3 GTR-ND; ComponentLink1Description: Datasheet; ComponentLink1URL: http://www.infineon.com/dgdl/BSC190N15NS3_Rev2.4.pdf?folderId=db3a304313b8b5a60113cee8763b02d7&fileId=db3a30431d8a6b3c011d8bf2fcf30076; ComponentLink2Description: Digi-Key Listing; ComponentLink2URL: http://www.digikey.com/product-detail/en/BSC190N15NS3%20G/BSC190N15NS3%20GTR-ND/2080649; Price: 1.0879; Type: MOSFET N-Channel, Metal Oxide; Device Package: 8-PowerTDFN; Drain to Source Voltage (Vdss): 150V; Features: Standard
footprint INFINEON PG-TDSON-8 6.15x5.32mm
pins: 1 S, 2 S, 3 S, 4 G, 5 D, 6 D, 7 D, 8 D

## BSC196N10NS G
designator IC?
MOSFET N-CH 100V 45A TDSON-8; Manufacturer: Infineon Technologies; Rds On (Max) at Id, Vgs: 19.6 mOhm @ 45A, 10V; Vgs(th) (Max) at Id: 4V @ 42uA; Gate Charge (Qg): 34nC @ 10V; Input Capacitance (Ciss) at Vds: 2300pF @ 50V; Power - Max: 78W; Current Continuous Drain: 8.5A (Ta), 45A (Tc); Part Number: BSC196N10NS G; PartId: 7985; Supplier 1: Digi-Key; Supplier Part Number 1: BSC196N10NS GTR-ND; ComponentLink1Description: Datasheet; ComponentLink1URL: http://www.infineon.com/dgdl/BSC196N10NS+Rev1.05.pdf?folderId=db3a3043156fd5730115c7d50620107c&fileId=db3a3043163797a601164800549d071f; ComponentLink2Description: Digi-Key Listing; ComponentLink2URL: http://www.digikey.com/product-detail/en/BSC196N10NS%20G/BSC196N10NS%20GTR-ND/2080650; Price: 0.3503; Type: MOSFET N-Channel, Metal Oxide; Device Package: 8-PowerTDFN; Drain to Source Voltage (Vdss): 100V; Features: Standard
footprint INFINEON PG-TDSON-8 6.15x5.32mm
pins: 1 S, 2 S, 3 S, 4 G, 5 D, 6 D, 7 D, 8 D

## BSC320N20NS3 G
designator IC?
MOSFET N-CH 200V 36A TDSON-8; Manufacturer: Infineon Technologies; Rds On (Max) at Id, Vgs: 32 mOhm @ 36A, 10V; Vgs(th) (Max) at Id: 4V @ 90uA; Gate Charge (Qg): 29nC @ 10V; Input Capacitance (Ciss) at Vds: 2350pF @ 100V; Power - Max: 125W; Current Continuous Drain: 36A (Tc); Part Number: BSC320N20NS3 G; PartId: 7993; Supplier 1: Digi-Key; Supplier Part Number 1: BSC320N20NS3 GTR-ND; ComponentLink1Description: Datasheet; ComponentLink1URL: http://www.infineon.com/dgdl/BSC320N20NS3+G+Rev2.2.pdf?folderId=db3a3043163797a6011637d4bae7003b&fileId=db3a3043243b5f17012495e37b301571; ComponentLink2Description: Digi-Key Listing; ComponentLink2URL: http://www.digikey.com/product-detail/en/BSC320N20NS3%20G/BSC320N20NS3%20GTR-ND/2337851; Price: 1.2178; Type: MOSFET N-Channel, Metal Oxide; Device Package: 8-PowerTDFN; Drain to Source Voltage (Vdss): 200V; Features: Standard
footprint INFINEON PG-TDSON-8 6.15x5.32mm
pins: 1 S, 2 S, 3 S, 4 G, 5 D, 6 D, 7 D, 8 D

## BSC340N08NS3 G
designator IC?
MOSFET N-CH 80V 23A TDSON-8; Manufacturer: Infineon Technologies; Rds On (Max) at Id, Vgs: 34 mOhm @ 12A, 10V; Vgs(th) (Max) at Id: 3.5V @ 12uA; Gate Charge (Qg): 9.1nC @ 10V; Input Capacitance (Ciss) at Vds: 756pF @ 40V; Power - Max: 32W; Current Continuous Drain: 7A (Ta), 23A (Tc); Part Number: BSC340N08NS3 G; PartId: 16185; Supplier 1: Digi-Key; Supplier Part Number 1: BSC340N08NS3 GTR-ND; ComponentLink1Description: Datasheet; ComponentLink1URL: http://www.infineon.com/dgdl/BSC340N08NS3G_rev2.6.pdf?folderId=db3a304313b8b5a60113cee8763b02d7&fileId=db3a30431add1d95011ae81c21f2563a; ComponentLink2Description: Digi-Key Listing; ComponentLink2URL: http://www.digikey.com/product-detail/en/infineon-technologies/BSC340N08NS3-G/BSC340N08NS3-GTR-ND/2080655; Price: 0.1925; Type: MOSFET N-Channel, Metal Oxide; Device Package: 8-PowerTDFN; Drain to Source Voltage (Vdss): 80V; Features: Standard
footprint INFINEON PG-TDSON-8 6.15x5.32mm
pins: 1 S, 2 S, 3 S, 4 G, 5 D, 6 D, 7 D, 8 D

## BSC360N15NS3 G
designator IC?
MOSFET N-CH 150V 33A 8TDSON; Manufacturer: Infineon Technologies; Rds On (Max) at Id, Vgs: 36 mOhm @ 25A, 10V; Vgs(th) (Max) at Id: 4V @ 45uA; Gate Charge (Qg): 15nC @ 10V; Input Capacitance (Ciss) at Vds: 1190pF @ 75V; Power - Max: 74W; Current Continuous Drain: 33A (Tc); Part Number: BSC360N15NS3 G; PartId: 8032; Supplier 1: Digi-Key; Supplier Part Number 1: BSC360N15NS3 GTR-ND; ComponentLink1Description: Datasheet; ComponentLink1URL: http://www.infineon.com/dgdl/BSC360N15NS3_Rev2.0.pdf?folderId=db3a304325305e6d01254a567c041b4e&fileId=db3a304328c6bd5c012936a5026a2e2c; ComponentLink2Description: Digi-Key Listing; ComponentLink2URL: http://www.digikey.com/product-detail/en/BSC360N15NS3%20G/BSC360N15NS3%20GTR-ND/2783230; Price: 0.6402; Type: MOSFET N-Channel, Metal Oxide; Device Package: 8-PowerTDFN; Drain to Source Voltage (Vdss): 150V; Features: Standard
footprint INFINEON PG-TDSON-8 6.15x5.32mm
pins: 1 S, 2 S, 3 S, 4 G, 5 D, 6 D, 7 D, 8 D

## BSC500N20NS3GATMA1
designator IC?
MOSFET N-CH 200V 24A TDSON-8; Manufacturer: Infineon Technologies; Rds On (Max) at Id, Vgs: 50 mOhm @ 22A, 10V; Vgs(th) (Max) at Id: 4V @ 60uA; Gate Charge (Qg): 5nC @ 10V; Input Capacitance (Ciss) at Vds: 1580pF @ 100V; Power - Max: 96W; Current Continuous Drain: 24A (Tc); Part Number: BSC500N20NS3GATMA1; PartId: 15705; Supplier 1: Digi-Key; Supplier Part Number 1: BSC500N20NS3GATMA1TR-ND; ComponentLink1Description: Datasheet; ComponentLink1URL: http://www.infineon.com/dgdl/BSC500N20NS3+G+Rev2.0.pdf?folderId=db3a304325305e6d012596c6ca7b290a&fileId=db3a30433cfb5caa013d11dd032123a3; ComponentLink2Description: Digi-Key Listing; ComponentLink2URL: https://www.digikey.com/product-detail/en/infineon-technologies/BSC500N20NS3GATMA1/BSC500N20NS3GATMA1TR-ND/4318682; Price: 0.6973; Type: MOSFET N-Channel, Metal Oxide; Device Package: 8-PowerTDFN; Drain to Source Voltage (Vdss): 200V; Features: Standard
footprint INFINEON PG-TDSON-8 6.15x5.32mm
pins: 1 S, 2 S, 3 S, 4 G, 5 D, 6 D, 7 D, 8 D

## BSC600N25NS3 G
designator IC?
MOSFET N-CH 250V 25A TDSON-8; Manufacturer: Infineon Technologies; Rds On (Max) at Id, Vgs: 60 mOhm @ 25A, 10V; Vgs(th) (Max) at Id: 4V @ 90uA; Gate Charge (Qg): 29nC @ 10V; Input Capacitance (Ciss) at Vds: 2350pF @ 100V; Power - Max: 125W; Current Continuous Drain: 25A (Tc); Part Number: BSC600N25NS3 G; PartId: 8036; Supplier 1: Digi-Key; Supplier Part Number 1: BSC600N25NS3 GTR-ND; ComponentLink1Description: Datasheet; ComponentLink1URL: http://www.infineon.com/dgdl/BSC600N25NS3+G+Rev2.3.pdf?folderId=db3a3043163797a6011637d4bae7003b&fileId=db3a3043243b5f17012496ab13871948; ComponentLink2Description: Digi-Key Listing; ComponentLink2URL: http://www.digikey.com/product-detail/en/BSC600N25NS3%20G/BSC600N25NS3%20GTR-ND/2337854; Price: 1.3011; Type: MOSFET N-Channel, Metal Oxide; Device Package: 8-PowerTDFN; Drain to Source Voltage (Vdss): 250V; Features: Standard
footprint INFINEON PG-TDSON-8 6.15x5.32mm
pins: 1 S, 2 S, 3 S, 4 G, 5 D, 6 D, 7 D, 8 D

## BSC900N20NS3 G
designator IC?
MOSFET N-CH 200V 15.2A 8TDSON; Manufacturer: Infineon Technologies; Rds On (Max) at Id, Vgs: 90 mOhm @ 7.6A, 10V; Vgs(th) (Max) at Id: 4V @ 30uA; Gate Charge (Qg): 11.6nC @ 10V; Input Capacitance (Ciss) at Vds: 920pF @ 100V; Power - Max: 62.5W; Current Continuous Drain: 15.2A (Tc); Part Number: BSC900N20NS3 G; PartId: 8000; Supplier 1: Digi-Key; Supplier Part Number 1: BSC900N20NS3GTR-ND; ComponentLink1Description: Datasheet; ComponentLink1URL: http://www.infineon.com/dgdl/BSC900N20NS3+Rev2.1.pdf?folderId=db3a304325305e6d012596c6ca7b290a&fileId=db3a30432ad629a6012b144f6b0619db; ComponentLink2Description: Digi-Key Listing; ComponentLink2URL: http://www.digikey.com/product-detail/en/BSC900N20NS3%20G/BSC900N20NS3GTR-ND/2527823; Price: 0.6402; Type: MOSFET N-Channel, Metal Oxide; Device Package: 8-PowerTDFN; Drain to Source Voltage (Vdss): 200V; Features: Standard
footprint INFINEON PG-TDSON-8 6.15x5.32mm
pins: 1 S, 2 S, 3 S, 4 G, 5 D, 6 D, 7 D, 8 D

## BSC0901NS
designator IC?
MOSFET N-CH 30V 100A 8TDSON; Manufacturer: Infineon Technologies; Rds On (Max) at Id, Vgs: 1.9 mOhm @ 30A, 10V; Vgs(th) (Max) at Id: 2.2V @ 250uA; Gate Charge (Qg): 44nC @ 10V; Input Capacitance (Ciss) at Vds: 2800pF @ 15V; Power - Max: 69W; Current Continuous Drain: 28A (Ta), 100A (Tc); Part Number: BSC0901NS; PartId: 8042; Supplier 1: Digi-Key; Supplier Part Number 1: BSC0901NSTR-ND; ComponentLink1Description: Datasheet; ComponentLink1URL: http://www.infineon.com/dgdl/BSC0901NS_Rev+1.21.pdf?folderId=db3a304313b8b5a60113cee8763b02d7&fileId=db3a30432c64a60d012cbc8040080376; ComponentLink2Description: Digi-Key Listing; ComponentLink2URL: http://www.digikey.com/product-detail/en/BSC0901NS/BSC0901NSTR-ND/2527816; Price: 0.3458; Type: MOSFET N-Channel, Metal Oxide; Device Package: 8-PowerTDFN; Drain to Source Voltage (Vdss): 30V; Features: Standard
footprint INFINEON PG-TDSON-8 6.15x5.32mm
pins: 1 S, 2 S, 3 S, 4 G, 5 D, 6 D, 7 D, 8 D

## BSC0901NSI
designator IC?
MOSFET N-CH 30V 28A 8TDSON; Manufacturer: Infineon Technologies; Rds On (Max) at Id, Vgs: 2 mOhm @ 30A, 10V; Vgs(th) (Max) at Id: 2.2V @ 250uA; Gate Charge (Qg): 20nC @ 15V; Input Capacitance (Ciss) at Vds: 2600pF @ 15V; Power - Max: 69W; Current Continuous Drain: 28A (Ta), 100A (Tc); Part Number: BSC0901NSI; PartId: 8040; Supplier 1: Digi-Key; Supplier Part Number 1: BSC0901NSITR-ND; ComponentLink1Description: Datasheet; ComponentLink1URL: http://www.infineon.com/dgdl/BSC0901NSI_Rev_2.1.pdf?folderId=db3a304313b8b5a60113cee8763b02d7&fileId=db3a30432f29829e012f2aa7bdc30067; ComponentLink2Description: Digi-Key Listing; ComponentLink2URL: http://www.digikey.com/product-detail/en/BSC0901NSI/BSC0901NSITR-ND/2783224; Price: 0.399; Type: MOSFET N-Channel, Metal Oxide; Device Package: 8-PowerTDFN; Drain to Source Voltage (Vdss): 30V; Features: Standard
footprint INFINEON PG-TDSON-8 6.15x5.32mm
pins: 1 S, 2 S, 3 S, 4 G, 5 D, 6 D, 7 D, 8 D

## BSC0902NS
designator IC?
MOSFET N-CH 30V 100A 8TDSON; Manufacturer: Infineon Technologies; Rds On (Max) at Id, Vgs: 2.6 mOhm @ 30A, 10V; Vgs(th) (Max) at Id: 2.2V @ 250uA; Gate Charge (Qg): 26nC @ 10V; Input Capacitance (Ciss) at Vds: 1700pF @ 15V; Power - Max: 48W; Current Continuous Drain: 24A (Ta), 100A (Tc); Part Number: BSC0902NS; PartId: 8003; Supplier 1: Digi-Key; Supplier Part Number 1: BSC0902NSTR-ND; ComponentLink1Description: Datasheet; ComponentLink1URL: http://www.infineon.com/dgdl/BSC0902NS_Rev+2.1.pdf?folderId=db3a304313b8b5a60113cee8763b02d7&fileId=db3a30432c64a60d012cc053cffb38b5; ComponentLink2Description: Digi-Key Listing; ComponentLink2URL: http://www.digikey.com/product-detail/en/BSC0902NS/BSC0902NSTR-ND/2527817; Price: 0.324; Type: MOSFET N-Channel, Metal Oxide; Device Package: 8-PowerTDFN; Drain to Source Voltage (Vdss): 30V; Features: Standard
footprint INFINEON PG-TDSON-8 6.15x5.32mm
pins: 1 S, 2 S, 3 S, 4 G, 5 D, 6 D, 7 D, 8 D

## BSC0902NSI
designator IC?
MOSFET N-CH 30V 100A 8TDSON; Manufacturer: Infineon Technologies; Rds On (Max) at Id, Vgs: 2.8 mOhm @ 30A, 10V; Vgs(th) (Max) at Id: 2V @ 10mA; Gate Charge (Qg): 32nC @ 10V; Input Capacitance (Ciss) at Vds: 1500pF @ 15V; Power - Max: 48W; Current Continuous Drain: 23A (Ta), 100A (Tc); Part Number: BSC0902NSI; PartId: 7987; Supplier 1: Digi-Key; Supplier Part Number 1: BSC0902NSITR-ND; ComponentLink1Description: Datasheet; ComponentLink1URL: http://www.infineon.com/dgdl/BSC0902NSI_Rev_2.1.pdf?folderId=db3a304313b8b5a60113cee8763b02d7&fileId=db3a30433072cd8f01308ea027703424; ComponentLink2Description: Digi-Key Listing; ComponentLink2URL: http://www.digikey.com/product-detail/en/BSC0902NSI/BSC0902NSITR-ND/2527818; Price: 0.3325; Type: MOSFET N-Channel, Metal Oxide; Device Package: 8-PowerTDFN; Drain to Source Voltage (Vdss): 30V; Features: Standard
footprint INFINEON PG-TDSON-8 6.15x5.32mm
pins: 1 S, 2 S, 3 S, 4 G, 5 D, 6 D, 7 D, 8 D

## BSC0909NS
designator IC?
MOSFET N-CH 34V 44A 8TDSON; Manufacturer: Infineon Technologies; Rds On (Max) at Id, Vgs: 9.2 mOhm @ 20A, 10V; Vgs(th) (Max) at Id: 2V @ 250uA; Gate Charge (Qg): 15nC @ 10V; Input Capacitance (Ciss) at Vds: 1110pF @ 15V; Power - Max: 27W; Current Continuous Drain: 12A (Ta), 44A (Tc); Part Number: BSC0909NS; PartId: 8029; Supplier 1: Digi-Key; Supplier Part Number 1: BSC0909NSTR-ND; ComponentLink1Description: Datasheet; ComponentLink1URL: http://www.infineon.com/dgdl/BSC0909NS_Rev+3.2.pdf?folderId=db3a304313b8b5a60113cee8ed2a02db&fileId=db3a3043284aacd80128826aeb7653f0; ComponentLink2Description: Digi-Key Listing; ComponentLink2URL: http://www.digikey.com/product-detail/en/BSC0909NS/BSC0909NSTR-ND/2527820; Price: 0.1812; Type: MOSFET N-Channel, Metal Oxide; Device Package: 8-PowerTDFN; Drain to Source Voltage (Vdss): 34V; Features: Standard
footprint INFINEON PG-TDSON-8 6.15x5.32mm
pins: 1 S, 2 S, 3 S, 4 G, 5 D, 6 D, 7 D, 8 D

## BSH103,215
designator IC?
MOSFET N-CH 30V 0.85A SOT23; Manufacturer: NXP USA Inc.; Rds On (Max) at Id, Vgs: 400 mOhm @ 500mA, 4.5V; Vgs(th) (Max) at Id: 8V; Gate Charge (Qg): 2.1nC @ 4.5V; Input Capacitance (Ciss) at Vds: 83pF @ 24V; Current Continuous Drain: 850mA (Ta); Part Number: BSH103,215; PartId: 29584; Supplier 1: Digi-Key; Supplier Part Number 1: 568-5013-1-ND; ComponentLink1Description: Datasheet; ComponentLink1URL: http://www.nxp.com/documents/data_sheet/BSH103.pdf; ComponentLink2Description: Digi-Key Listing; ComponentLink2URL: https://www.digikey.com/product-detail/en/nxp-usa-inc/BSH103,215/568-5013-1-ND/2209929; Price: 0.53; Type: N-Channel; Device Package: TO-236-3, SC-59, SOT-23-3; Drain to Source Voltage (Vdss): 30V
footprint NXP SOT-23-3 TO-236AB
pins: 1 G, 2 D, 3 S

## BSH103,235
designator IC?
MOSFET N-CH 30V 0.85A SOT23; Manufacturer: NXP USA Inc.; Rds On (Max) at Id, Vgs: 400 mOhm @ 500mA, 4.5V; Vgs(th) (Max) at Id: 8V; Gate Charge (Qg): 2.1nC @ 4.5V; Input Capacitance (Ciss) at Vds: 83pF @ 24V; Current Continuous Drain: 850mA (Ta); Part Number: BSH103,235; PartId: 29585; Supplier 1: Digi-Key; Supplier Part Number 1: 568-11607-1-ND; ComponentLink1Description: Datasheet; ComponentLink1URL: http://www.nxp.com/documents/data_sheet/BSH103.pdf; ComponentLink2Description: Digi-Key Listing; ComponentLink2URL: https://www.digikey.com/product-detail/en/nxp-usa-inc/BSH103,235/568-11607-1-ND/5015553; Price: 0.53; Type: N-Channel; Device Package: TO-236-3, SC-59, SOT-23-3; Drain to Source Voltage (Vdss): 30V
footprint NXP SOT-23-3 TO-236AB
pins: 1 G, 2 D, 3 S

## BSH105,215
designator IC?
MOSFET N-CH 20V 1.05A SOT23; Manufacturer: NXP USA Inc.; Rds On (Max) at Id, Vgs: 200 mOhm @ 600mA, 4.5V; Vgs(th) (Max) at Id: 8V; Gate Charge (Qg): 3.9nC @ 4.5V; Input Capacitance (Ciss) at Vds: 152pF @ 16V; Current Continuous Drain: 1.05A (Ta); Part Number: BSH105,215; PartId: 29583; Supplier 1: Digi-Key; Supplier Part Number 1: 568-6215-1-ND; ComponentLink1Description: Datasheet; ComponentLink1URL: http://www.nxp.com/documents/data_sheet/BSH105.pdf; ComponentLink2Description: Digi-Key Listing; ComponentLink2URL: https://www.digikey.com/product-detail/en/nxp-usa-inc/BSH105,215/568-6215-1-ND/2531502; Price: 0.53; Type: N-Channel; Device Package: TO-236-3, SC-59, SOT-23-3; Drain to Source Voltage (Vdss): 20V
footprint NXP SOT-23-3 TO-236AB
pins: 1 G, 2 D, 3 S

## BSH108,215
designator IC?
MOSFET N-CH 30V 1.9A SOT23; Manufacturer: NXP USA Inc.; Rds On (Max) at Id, Vgs: 120 mOhm @ 1A, 10V; Vgs(th) (Max) at Id: 20V; Gate Charge (Qg): 10nC @ 10V; Input Capacitance (Ciss) at Vds: 190pF @ 10V; Current Continuous Drain: 1.9A (Tc); Part Number: BSH108,215; PartId: 29601; Supplier 1: Digi-Key; Supplier Part Number 1: 568-6216-1-ND; ComponentLink1Description: Datasheet; ComponentLink1URL: http://www.nxp.com/documents/data_sheet/BSH108.pdf; ComponentLink2Description: Digi-Key Listing; ComponentLink2URL: https://www.digikey.com/product-detail/en/nxp-usa-inc/BSH108,215/568-6216-1-ND/2531503; Price: 0.84; Type: N-Channel; Device Package: TO-236-3, SC-59, SOT-23-3; Drain to Source Voltage (Vdss): 30V
footprint NXP SOT-23-3 TO-236AB
pins: 1 G, 2 D, 3 S

## BSH114,215
designator IC?
MOSFET N-CH 100V 500MA SOT23; Manufacturer: NXP USA Inc.; Rds On (Max) at Id, Vgs: 500 mOhm @ 500mA, 10V; Vgs(th) (Max) at Id: 20V; Gate Charge (Qg): 4.6nC @ 10V; Input Capacitance (Ciss) at Vds: 138pF @ 25V; Current Continuous Drain: 500mA (Ta); Part Number: BSH114,215; PartId: 29600; Supplier 1: Digi-Key; Supplier Part Number 1: 568-8025-1-ND; ComponentLink1Description: Datasheet; ComponentLink1URL: http://www.nxp.com/documents/data_sheet/BSH114.pdf; ComponentLink2Description: Digi-Key Listing; ComponentLink2URL: https://www.digikey.com/product-detail/en/nxp-usa-inc/BSH114,215/568-8025-1-ND/2762715; Price: 0.7; Type: N-Channel; Device Package: TO-236-3, SC-59, SOT-23-3; Drain to Source Voltage (Vdss): 100V
footprint NXP SOT-23-3 TO-236AB
pins: 1 G, 2 D, 3 S

## BSN20-7
designator IC?
MOSFET N-CH 50V 500MA SOT23; Manufacturer: Diodes Incorporated; Rds On (Max) at Id, Vgs: 1.8 Ohm @ 220mA, 10V; Vgs(th) (Max) at Id: 20V; Gate Charge (Qg): 0.8nC @ 10V; Input Capacitance (Ciss) at Vds: 40pF @ 10V; Current Continuous Drain: 500mA (Ta); Part Number: BSN20-7; PartId: 29493; Supplier 1: Digi-Key; Supplier Part Number 1: BSN20-7DICT-ND; ComponentLink1Description: Datasheet; ComponentLink1URL: http://www.diodes.com/_files/datasheets/ds31898.pdf; ComponentLink2Description: Digi-Key Listing; ComponentLink2URL: https://www.digikey.com/product-detail/en/diodes-incorporated/BSN20-7/BSN20-7DICT-ND/2756060; Price: 0.53; Type: N-Channel; Device Package: TO-236-3, SC-59, SOT-23-3; Drain to Source Voltage (Vdss): 50V
footprint DIODES SOT-23-3
pins: 1 G, 2 D, 3 S